# Altium footprint library SLAYER_Altium_Pcb.PcbLib: 31 footprints (part 1 of 2)
Each footprint in its own frame and in the unit in brackets; x right, y up, seen from the top. Pads: shape width x height; smd on the part's side, far side on the other; paste and mask are expansions set on the pad; w line width, h text height; cw(c..) or ccw(c..) is an arc to the next point about the centre after c.
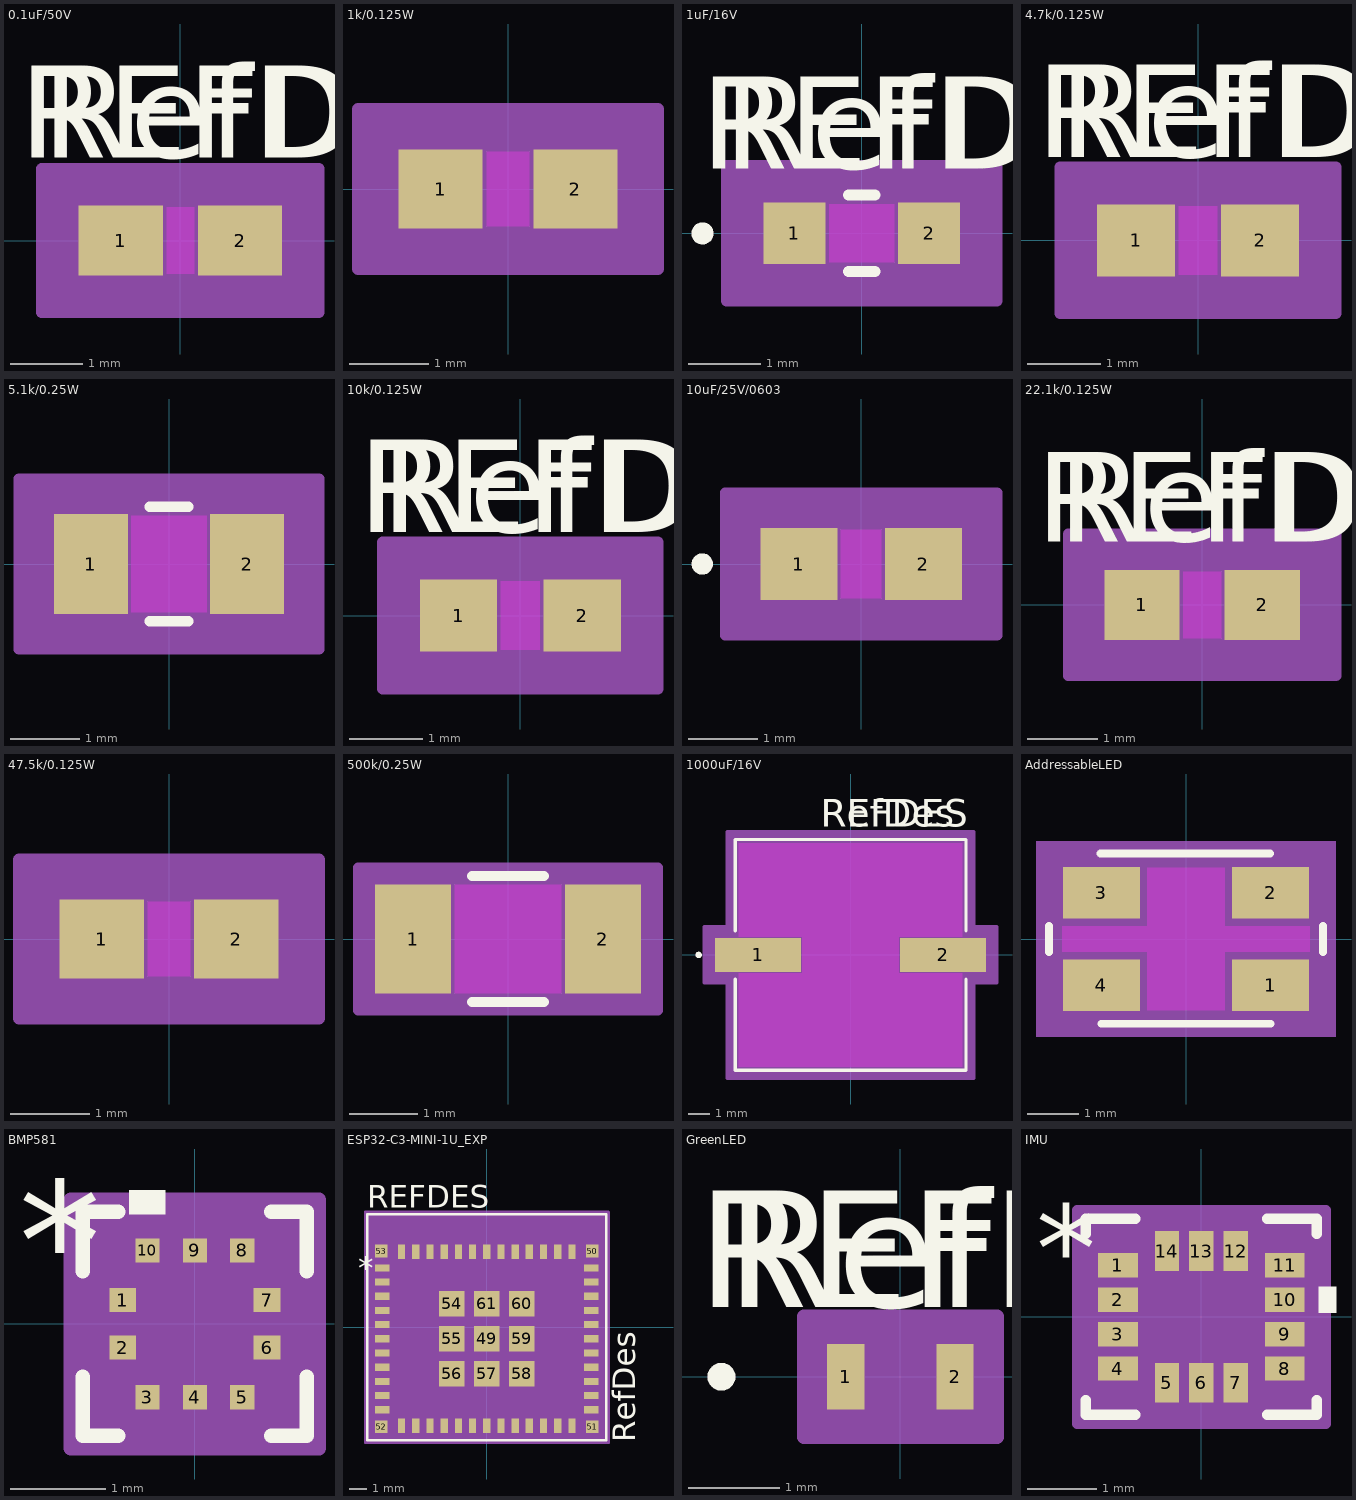
[diagram p0: the footprints below, top view; thin cyan lines are the x and y axes]

## 0.1uF/50V [mm] "CC0603KRX7R9BB104"
pads (2):
  rect 1.16x0.964 smd paste+0 mask+0: 1(-0.821,0) 2(0.821,0)
Top Layer keep-out:
  region: -0.191,-0.406 -0.191,0.406 0.191,0.406 0.191,-0.406
Top Overlay:
  text "RefDes" at -1.905,1.143 h1.27
  text "REFDES" at -2.222,1.143 h1.27
Keep-Out Layer:
  region: -0.191,-0.457 -0.191,0.457 0.191,0.457 0.191,-0.457
Mechanical 13:
  lines w0.025: -0.851,-0.457 -0.851,0.457 ; -0.851,-0.457 -0.241,-0.457 -0.241,0.457 -0.851,0.457 ; -0.851,-0.457 0.851,-0.457 ; -0.851,-0.457 -0.851,0.457 ; -0.851,0.457 0.851,0.457 ; 0.851,-0.457 0.241,-0.457 0.241,0.457 0.851,0.457 ; 0.851,-0.457 0.851,0.457 ; 0.851,-0.457 0.851,0.457
  text "RefDes2" at -2.222,1.143 h1.27
Mechanical 15:
  region: 1.909,-0.99 -1.909,-0.99 -1.909,0.99 1.909,0.99
  lines w0.152: -1.909,-0.99 -1.909,0.99 1.909,0.99 1.909,-0.99 -1.909,-0.99
3D body "YAG_CC0603_YAG.step": height 0.91, standoff 0, extent -0.851,-0.457 0.851,0.457

## 1k/0.125W [mm] "CRCW06031K00FKEA"
pads (2):
  rect 1.058x0.99 smd paste+0 mask+0: 1(-0.847,0) 2(0.847,0)
Top Layer keep-out:
  region: -0.267,-0.419 -0.267,0.419 0.267,0.419 0.267,-0.419
Top Overlay:
  text ".Designator" at -3.111,1.143 h1.27
Keep-Out Layer:
  region: -0.267,-0.47 -0.267,0.47 0.267,0.47 0.267,-0.47
Mechanical 13:
  lines w0.025: -0.826,-0.47 -0.826,0.47 ; -0.826,-0.47 0.826,-0.47 ; -0.826,-0.47 -0.318,-0.47 -0.318,0.47 -0.826,0.47 ; -0.826,-0.47 -0.826,0.47 ; -0.826,0.47 0.826,0.47 ; 0.826,-0.47 0.826,0.47 ; 0.826,-0.47 0.826,0.47 ; 0.826,-0.47 0.318,-0.47 0.318,0.47 0.826,0.47
  text ".Designator" at -3.111,1.143 h1.27
Mechanical 15:
  region: 1.883,-1.003 -1.883,-1.003 -1.883,1.003 1.883,1.003
  lines w0.152: -1.883,-1.003 1.883,-1.003 1.883,1.003 -1.883,1.003 -1.883,-1.003
3D body "RES_CRCW_0603.step": height 0.51, standoff 0, extent -0.826,-0.47 0.826,0.47

## 1uF/16V [mm] "CL10B105KO8NNNC"
pads (2):
  rect 0.859x0.851 smd paste+0 mask+0: 1(-0.929,0) 2(0.929,0)
Top Layer keep-out:
  region: -0.449,-0.349 -0.449,0.349 0.449,0.349 0.449,-0.349
Top Overlay:
  circle w0.152: c-2.197,0 r0.076
  lines w0.152: -0.183,-0.527 0.183,-0.527 ; -0.183,0.527 0.183,0.527
  text "REFDES" at -2.222,0.889 h1.27
  text "RefDes" at -1.905,0.889 h1.27
Keep-Out Layer:
  region: -0.449,-0.4 -0.449,0.4 0.449,0.4 0.449,-0.4
Mechanical 13:
  circle w0: c-0.802,0 r0.076
  lines w0.025: -0.8,-0.4 -0.8,0.4 ; -0.8,-0.4 0.8,-0.4 ; -0.8,-0.4 -0.5,-0.4 -0.5,0.4 -0.8,0.4 ; -0.8,-0.4 -0.8,0.4 ; -0.8,0.4 0.8,0.4 ; 0.8,-0.4 0.8,0.4 ; 0.8,-0.4 0.8,0.4 ; 0.8,-0.4 0.5,-0.4 0.5,0.4 0.8,0.4
  text "RefDes2" at -2.222,0.889 h1.27
Mechanical 15:
  region: 1.867,-0.933 -1.867,-0.933 -1.867,0.933 1.867,0.933
  lines w0.152: -1.867,-0.933 1.867,-0.933 1.867,0.933 -1.867,0.933 -1.867,-0.933
3D body "CAP_CL10_SAM.step": height 0.9, standoff 0, extent -0.8,-0.4 0.8,0.4

## 4.7k/0.125W [mil] "CRCW06034K70FKEA"
pads (2):
  rect 42x39 smd paste+0 mask+0: 1(-33.5,0) 2(33.5,0)
Top Layer keep-out:
  region: -10.5,-16.5 -10.5,16.5 10.5,16.5 10.5,-16.5
Top Overlay:
  text "REFDES" at -87.5,45 h50
  text "RefDes" at -75,45 h50
Keep-Out Layer:
  region: -10.5,-18.5 -10.5,18.5 10.5,18.5 10.5,-18.5
Mechanical 13:
  lines w1: -32.5,-18.5 -32.5,18.5 ; -32.5,-18.5 32.5,-18.5 ; -32.5,-18.5 -12.5,-18.5 -12.5,18.5 -32.5,18.5 ; -32.5,-18.5 -32.5,18.5 ; -32.5,18.5 32.5,18.5 ; 32.5,-18.5 32.5,18.5 ; 32.5,-18.5 32.5,18.5 ; 32.5,-18.5 12.5,-18.5 12.5,18.5 32.5,18.5
  text "RefDes2" at -87.5,45 h50
Mechanical 15:
  region: 74.5,-39.5 -74.5,-39.5 -74.5,39.5 74.5,39.5
  lines w6: -74.5,-39.5 74.5,-39.5 74.5,39.5 -74.5,39.5 -74.5,-39.5
3D body "RES_CRCW_0603.step": height 20, standoff 0, extent -32.52,-18.5 32.52,18.5

## 5.1k/0.25W [mil] "CRCW08055K10FKEA"
pads (2):
  rect 42x57 smd paste+0 mask+0: 1(-44.5,0) 2(44.5,0)
Top Layer keep-out:
  region: -21.5,-25.5 -21.5,25.5 21.5,25.5 21.5,-25.5
Top Overlay:
  lines w6: -11.03,-32.5 11.03,-32.5 ; -11.03,32.5 11.03,32.5
  text ".Designator" at -127.5,55 h50
Keep-Out Layer:
  region: -21.5,-27.5 -21.5,27.5 21.5,27.5 21.5,-27.5
Mechanical 13:
  lines w1: -43.5,-27.5 -43.5,27.5 ; -43.5,-27.5 43.5,-27.5 ; -43.5,-27.5 -23.5,-27.5 -23.5,27.5 -43.5,27.5 ; -43.5,-27.5 -43.5,27.5 ; -43.5,27.5 43.5,27.5 ; 43.5,-27.5 43.5,27.5 ; 43.5,-27.5 43.5,27.5 ; 43.5,-27.5 23.5,-27.5 23.5,27.5 43.5,27.5
  text ".Designator" at -127.5,55 h50
Mechanical 15:
  region: 85.5,-48.5 -85.5,-48.5 -85.5,48.5 85.5,48.5
  lines w6: -85.5,-48.5 85.5,-48.5 85.5,48.5 -85.5,48.5 -85.5,-48.5
3D body "RES_CRCW_0805.step": height 20, standoff 0, extent -43.5,-27.48 43.5,27.48

## 10k/0.125W [mm] "CRCW060310K0FKEA"
pads (2):
  rect 1.058x0.99 smd paste+0 mask+0: 1(-0.847,0) 2(0.847,0)
Top Layer keep-out:
  region: -0.267,-0.419 -0.267,0.419 0.267,0.419 0.267,-0.419
Top Overlay:
  text "RefDes" at -1.905,1.143 h1.27
  text "REFDES" at -2.222,1.143 h1.27
Keep-Out Layer:
  region: -0.267,-0.47 -0.267,0.47 0.267,0.47 0.267,-0.47
Mechanical 13:
  lines w0.025: -0.826,-0.47 -0.826,0.47 ; -0.826,-0.47 -0.318,-0.47 -0.318,0.47 -0.826,0.47 ; -0.826,-0.47 0.826,-0.47 ; -0.826,-0.47 -0.826,0.47 ; -0.826,0.47 0.826,0.47 ; 0.826,-0.47 0.318,-0.47 0.318,0.47 0.826,0.47 ; 0.826,-0.47 0.826,0.47 ; 0.826,-0.47 0.826,0.47
  text "RefDes2" at -2.222,1.143 h1.27
Mechanical 15:
  region: 1.883,-1.003 -1.883,-1.003 -1.883,1.003 1.883,1.003
  lines w0.152: -1.883,-1.003 -1.883,1.003 1.883,1.003 1.883,-1.003 -1.883,-1.003
3D body "RES_CRCW_0603.step": height 0.51, standoff 0, extent -0.826,-0.47 0.826,0.47

## 10uF/25V/0603 [mm] "GRM188R61E106KA73D"
pads (2):
  rect 1.109x1.041 smd paste+0 mask+0: 1(-0.897,0) 2(0.897,0)
Top Layer keep-out:
  region: -0.292,-0.445 -0.292,0.445 0.292,0.445 0.292,-0.445
Top Overlay:
  circle w0.152: c-2.29,0 r0.076
  text ".Designator" at -3.619,1.651 h1.27
Keep-Out Layer:
  region: -0.292,-0.495 -0.292,0.495 0.292,0.495 0.292,-0.495
Mechanical 13:
  circle w0.025: c-0.77,0 r0.076
  lines w0.025: -0.902,-0.495 -0.902,0.495 ; -0.902,-0.495 0.902,-0.495 ; -0.902,-0.495 -0.343,-0.495 -0.343,0.495 -0.902,0.495 ; -0.902,-0.495 -0.902,0.495 ; -0.902,0.495 0.902,0.495 ; 0.902,-0.495 0.902,0.495 ; 0.902,-0.495 0.902,0.495 ; 0.902,-0.495 0.343,-0.495 0.343,0.495 0.902,0.495
  text ".Designator" at -3.619,1.651 h1.27
Mechanical 15:
  region: 1.96,-1.028 -1.96,-1.028 -1.96,1.028 1.96,1.028
  lines w0.152: -1.96,-1.028 1.96,-1.028 1.96,1.028 -1.96,1.028 -1.96,-1.028
3D body: height 0.25, standoff 0, extent 0,0 0.254,0.254

## 22.1k/0.125W [mil] "CRCW060322K1FKEA"
pads (2):
  rect 42x39 smd paste+0 mask+0: 1(-33.5,0) 2(33.5,0)
Top Layer keep-out:
  region: -10.5,-16.5 -10.5,16.5 10.5,16.5 10.5,-16.5
Top Overlay:
  text "REFDES" at -92.5,35 h50
  text "RefDes" at -80,35 h50
Keep-Out Layer:
  region: -10.5,-18.5 -10.5,18.5 10.5,18.5 10.5,-18.5
Mechanical 13:
  lines w1: -32.5,-18.5 -32.5,18.5 ; -32.5,-18.5 32.5,-18.5 ; -32.5,-18.5 -12.5,-18.5 -12.5,18.5 -32.5,18.5 ; -32.5,-18.5 -32.5,18.5 ; -32.5,18.5 32.5,18.5 ; 32.5,-18.5 32.5,18.5 ; 32.5,-18.5 32.5,18.5 ; 32.5,-18.5 12.5,-18.5 12.5,18.5 32.5,18.5
  text "RefDes2" at -92.5,35 h50
Mechanical 15:
  region: 74.5,-39.5 -74.5,-39.5 -74.5,39.5 74.5,39.5
  lines w6: -74.5,-39.5 74.5,-39.5 74.5,39.5 -74.5,39.5 -74.5,-39.5
3D body "RES_CRCW_0603.step": height 20, standoff 0, extent -32.52,-18.5 32.52,18.5

## 47.5k/0.125W [mil] "CRCW060347K5FKEA"
pads (2):
  rect 42x39 smd paste+0 mask+0: 1(-33.5,0) 2(33.5,0)
Top Layer keep-out:
  region: -10.5,-16.5 -10.5,16.5 10.5,16.5 10.5,-16.5
Top Overlay:
  text ".Designator" at -137.5,45 h50
Keep-Out Layer:
  region: -10.5,-18.5 -10.5,18.5 10.5,18.5 10.5,-18.5
Mechanical 13:
  lines w1: -32.5,-18.5 -32.5,18.5 ; -32.5,-18.5 32.5,-18.5 ; -32.5,-18.5 -12.5,-18.5 -12.5,18.5 -32.5,18.5 ; -32.5,-18.5 -32.5,18.5 ; -32.5,18.5 32.5,18.5 ; 32.5,-18.5 32.5,18.5 ; 32.5,-18.5 32.5,18.5 ; 32.5,-18.5 12.5,-18.5 12.5,18.5 32.5,18.5
  text ".Designator" at -137.5,45 h50
Mechanical 15:
  region: 74.5,-39.5 -74.5,-39.5 -74.5,39.5 74.5,39.5
  lines w6: -74.5,-39.5 74.5,-39.5 74.5,39.5 -74.5,39.5 -74.5,-39.5
3D body "RES_CRCW_0603.step": height 20, standoff 0, extent -32.52,-18.5 32.52,18.5

## 500k/0.25W [mil] "RC1206FR-07470KL"
pads (2):
  rect 44x63 smd paste+0 mask+0: 1(-55,0) 2(55,0)
Top Layer keep-out:
  region: -31,-29.5 -31,29.5 31,29.5 31,-29.5
Top Overlay:
  lines w6: -20.89,-36.5 20.89,-36.5 ; -20.89,36.5 20.89,36.5
  text ".Designator" at -137.5,55 h50
Keep-Out Layer:
  region: -31,-31.5 -31,31.5 31,31.5 31,-31.5
Mechanical 13:
  lines w1: -63,-31.5 -63,31.5 ; -63,-31.5 -33,-31.5 -33,31.5 -63,31.5 ; -63,-31.5 63,-31.5 ; -63,-31.5 -63,31.5 ; -63,31.5 63,31.5 ; 63,-31.5 33,-31.5 33,31.5 63,31.5 ; 63,-31.5 63,31.5 ; 63,-31.5 63,31.5
  text ".Designator" at -137.5,55 h50
Mechanical 15:
  region: 87,-41.5 -87,-41.5 -87,41.5 87,41.5
  lines w6: -87,-41.5 -87,41.5 87,41.5 87,-41.5 -87,-41.5
3D body "RC1206N_YAG.step": height 27.99, standoff 0, extent -62.99,-31.5 62.99,31.5

## 1000uF/16V [mil] "A768MS108M1CLAS015"
pads (2):
  rect 158x63 smd paste+0 mask+0: 1(-169.5,0) 2(169.5,0)
Top Layer keep-out:
  region: -88.5,-33.5 -88.5,33.5 88.5,33.5 88.5,-33.5
  region: -204.5,33.5 -204.5,204.5 204.5,204.5 204.5,33.5
  region: -204.5,-204.5 -204.5,-33.5 204.5,-33.5 204.5,-204.5
Top Overlay:
  circle w6: c-278.5,0 r3
  lines w6: -211.5,-44.6 -211.5,-211.5 211.5,-211.5 211.5,-44.6 ; -211.5,44.6 -211.5,211.5 211.5,211.5 211.5,44.6
  text "RefDes" at -55,235 h50
  text "REFDES" at -55,235 h50
Keep-Out Layer:
  region: -88.5,-33.5 -88.5,33.5 88.5,33.5 88.5,-33.5
Mechanical 13:
  circle w0: c-186.5,0 r3
  lines w1: -206.5,-103.25 -103.25,-206.5 ; -206.5,103.25 -103.25,206.5 ; -206.5,-206.5 206.5,-206.5 206.5,206.5 -206.5,206.5 -206.5,-206.5
  text "RefDes2" at -87.5,-25 h50
Mechanical 15:
  region: -226.5,-51.5 -268.5,-51.5 -268.5,51.5 -226.5,51.5 -226.5,226.5 226.5,226.5 226.5,51.5 268.5,51.5 268.5,-51.5 226.5,-51.5 226.5,-226.5 -226.5,-226.5
  lines w6: -268.5,-51.5 -268.5,51.5 -226.5,51.5 -226.5,226.5 226.5,226.5 226.5,51.5 268.5,51.5 268.5,-51.5 226.5,-51.5 226.5,-226.5 -226.5,-226.5 -226.5,-51.5 -268.5,-51.5
3D body "CAP_A768-MS_KEM.step": height 502.09, standoff 0, extent -220.51,-206.5 220.51,206.5

## AddressableLED [mm] "SK6812MINI-HS-012"
pads (4):
  rect 1.5x1 smd paste+0 mask+0: 1(1.65,-0.9) 2(1.65,0.9) 3(-1.65,0.9) 4(-1.65,-0.9)
Top Layer keep-out:
  rectangle: -0.762,-1.27 0.762,1.27
  rectangle: -2.286,-0.127 2.286,0.127
Top Overlay:
  lines w0.152: -2.667,-0.254 -2.667,0.254 ; -1.665,1.668 1.637,1.668 ; -1.651,-1.651 1.651,-1.651 ; 2.667,-0.254 2.667,0.254
Keep-Out Layer:
  rectangle: -0.762,-1.397 0.762,1.397
  rectangle: -2.413,-0.254 2.413,0.254
Mechanical 15:
  region: -2.921,1.905 2.921,1.905 2.921,-1.905 -2.921,-1.905

## BMP581 [mil]
pads (10):
  rect 11x10 smd paste+0 mask+0: 1(-29.93,9.84) 2(-29.93,-9.84) 6(29.93,-9.84) 7(29.93,9.84)
  rect 10x10 smd paste+0 mask+0: 3(-19.68,-30.43) 4(0,-30.43) 5(19.68,-30.43) 8(19.68,30.43) 9(0,30.43) 10(-19.68,30.43)
Top Overlay:
  region: -12.19,45.43 -27.18,45.43 -27.18,55.43 -12.19,55.43
  lines w6: -46.5,-21.85 -46.5,-46.5 -31.69,-46.5 ; -46.5,21.85 -46.5,46.5 -31.69,46.5 ; 31.69,-46.5 46.5,-46.5 46.5,-21.85 ; 31.69,46.5 46.5,46.5 46.5,21.85
  text ".Designator" at -137.5,65 h50
  text "*" at -72.93,9.69 h50
Mechanical 13:
  lines w1: -41.5,-8.5 8.5,41.5 ; -41.5,-41.5 -41.5,41.5 41.5,41.5 41.5,-41.5 -41.5,-41.5
  text "*" at -36.93,9.69 h50
  text ".Designator" at -137.5,65 h50
Mechanical 15:
  region: -34.69,-51.5 -51.5,-51.5 -51.5,-24.84 -51.5,24.84 -51.5,51.5 -34.69,51.5 34.69,51.5 51.5,51.5 51.5,24.84 51.5,-24.84 51.5,-51.5 34.69,-51.5
  lines w6: -51.5,-51.5 -34.69,-51.5 34.69,-51.5 51.5,-51.5 51.5,-24.84 51.5,24.84 51.5,51.5 34.69,51.5 -34.69,51.5 -51.5,51.5 -51.5,24.84 -51.5,-24.84 -51.5,-51.5
3D body "QFN10_BMP581_BOS.step": height 32.09, standoff 0, extent -41.5,-41.5 41.5,41.5

## ESP32-C3-MINI-1U_EXP [mil]
pads (61):
  rect 32x16 smd paste+0 mask+0: 1(-232.28,131.89) 2(-232.28,100.39) 3(-232.28,68.9) 4(-232.28,37.4) 5(-232.28,5.91) 6(-232.28,-25.59) 7(-232.28,-57.09) 8(-232.28,-88.58) 9(-232.28,-120.08) 10(-232.28,-151.57) 11(-232.28,-183.07) 25(232.28,-183.07) 26(232.28,-151.57) 27(232.28,-120.08) 28(232.28,-88.58) 29(232.28,-57.09) 30(232.28,-25.59) 31(232.28,5.91) 32(232.28,37.4) 33(232.28,68.9) 34(232.28,100.39) 35(232.28,131.89)
  rect 16x32 smd paste+0 mask+0: 12(-188.98,-218.5) 13(-157.48,-218.5) 14(-125.98,-218.5) 15(-94.49,-218.5) 16(-62.99,-218.5) 17(-31.5,-218.5) 18(0,-218.5) 19(31.5,-218.5) 20(62.99,-218.5) 21(94.49,-218.5) 22(125.98,-218.5) 23(157.48,-218.5) 24(188.98,-218.5) 36(188.98,167.32) 37(157.48,167.32) 38(125.98,167.32) 39(94.49,167.32) 40(62.99,167.32) 41(31.5,167.32) 42(0,167.32) 43(-31.5,167.32) 44(-62.99,167.32) 45(-94.49,167.32) 46(-125.98,167.32) 47(-157.48,167.32) 48(-188.98,167.32)
  rect 57x57 smd paste+0 mask+0: 49(0,-25.59) 54(-77.76,52.17) 55(-77.76,-25.59) 56(-77.76,-103.35) 57(0,-103.35) 58(77.76,-103.35) 59(77.76,-25.59) 60(77.76,52.17) 61(0,52.17)
  rect 28x28 smd paste+0 mask+0: 50(234.25,169.29) 51(234.25,-220.47) 52(-234.25,-220.47) 53(-234.25,169.29)
Top Overlay:
  lines w6: -265,-251 -265,251 265,251 265,-251 -265,-251
  text "REFDES" at -265,265 h50
  text "RefDes" at 330,-255 h50
  text "*" at -285.78,106.89 h50
Mechanical 13:
  lines w1: -260,196 -210,246 ; -260,-246 -260,246 260,246 260,-246 -260,-246
  text "RefDes2" at 330,-255 h50
  text "*" at -203.78,106.89 h50
Mechanical 15:
  region: 270,256 -270,256 -270,-256 270,-256
  lines w6: -270,-256 270,-256 270,256 -270,256 -270,-256

## GreenLED [mil] "LTST-C190KGKT"
pads (2):
  rect 16x28 smd paste+0 mask+0: 1(-23.5,0) 2(23.5,0)
Top Overlay:
  circle w6: c-77,0 r3
  text "REFDES" at -87.5,30 h50
  text "RefDes" at -75,30 h50
Mechanical 13:
  circle w0: c0,0 r3
  lines w1: -31.5,-16 31.5,-16 31.5,16 -31.5,16 -31.5,-16
  text "RefDes2" at -87.5,30 h50
Mechanical 15:
  region: -41.5,-24 -41.5,24 -41.5,26 41.5,26 41.5,24 41.5,-24 41.5,-26 -41.5,-26
  lines w6: -41.5,-26 -41.5,-24 -41.5,24 -41.5,26 41.5,26 41.5,24 41.5,-24 41.5,-26 -41.5,-26
3D body "LED_LTST-C190KGKT_LTO.step": height 32.09, standoff 0, extent -31.5,-15.98 31.5,15.98

## IMU [mm] "LSM6DSMTR"
pads (14):
  rect 0.577x0.352 smd paste+0 mask+0.102: 1(-1.21,0.75) 2(-1.21,0.25) 3(-1.21,-0.25) 4(-1.21,-0.75) 8(1.21,-0.75) 9(1.21,-0.25) 10(1.21,0.25) 11(1.21,0.75)
  rect 0.352x0.577 smd paste+0 mask+0.102: 5(-0.5,-0.956) 6(0,-0.956) 7(0.5,-0.956) 12(0.5,0.956) 13(0,0.956) 14(-0.5,0.956)
Top Overlay:
  region: 1.702,0.44 1.956,0.44 1.956,0.059 1.702,0.059
  lines w0.152: -1.676,-1.207 -1.676,-1.422 -0.957,-1.422 ; -1.676,1.207 -1.676,1.422 -0.957,1.422 ; 0.957,-1.422 1.676,-1.422 1.676,-1.207 ; 0.957,1.422 1.676,1.422 1.676,1.207
  text "*" at -2.4,0.365 h1.27
  text ".Designator" at -3.492,1.778 h1.27
Mechanical 13:
  lines w0.025: -1.549,0.025 -0.279,1.295 ; -1.549,-1.295 1.549,-1.295 1.549,1.295 -1.549,1.295 -1.549,-1.295 ; -1.549,-0.875 -1.549,-0.625 -1.448,-0.625 -1.448,-0.875 -1.549,-0.875 ; -1.549,-0.375 -1.549,-0.125 -1.448,-0.125 -1.448,-0.375 -1.549,-0.375 ; -1.549,0.125 -1.549,0.375 -1.448,0.375 -1.448,0.125 -1.549,0.125 ; -1.549,0.625 -1.549,0.875 -1.448,0.875 -1.448,0.625 -1.549,0.625 ; -0.625,-1.295 -0.375,-1.295 -0.375,-1.194 -0.625,-1.194 -0.625,-1.295 ; -0.625,1.194 -0.375,1.194 -0.375,1.295 -0.625,1.295 -0.625,1.194 ; -0.125,-1.295 0.125,-1.295 0.125,-1.194 -0.125,-1.194 -0.125,-1.295 ; -0.125,1.194 0.125,1.194 0.125,1.295 -0.125,1.295 -0.125,1.194 ; 0.375,-1.295 0.625,-1.295 0.625,-1.194 0.375,-1.194 0.375,-1.295 ; 0.375,1.194 0.625,1.194 0.625,1.295 0.375,1.295 0.375,1.194 ; 1.448,-0.875 1.549,-0.875 1.549,-0.625 1.448,-0.625 1.448,-0.875 ; 1.448,-0.375 1.549,-0.375 1.549,-0.125 1.448,-0.125 1.448,-0.375 ; 1.448,0.125 1.549,0.125 1.549,0.375 1.448,0.375 1.448,0.125 ; 1.448,0.625 1.549,0.625 1.549,0.875 1.448,0.875 1.448,0.625
  text ".Designator" at -3.492,1.778 h1.27
  text "*" at -1.29,0.365 h1.27
Mechanical 15:
  region: -0.879,-1.549 -1.803,-1.549 -1.803,-1.129 -1.803,1.129 -1.803,1.549 -0.879,1.549 0.879,1.549 1.803,1.549 1.803,1.129 1.803,-1.129 1.803,-1.549 0.879,-1.549
  lines w0.152: -1.803,-1.549 -1.803,-1.129 -1.803,1.129 -1.803,1.549 -0.879,1.549 0.879,1.549 1.803,1.549 1.803,1.129 1.803,-1.129 1.803,-1.549 0.879,-1.549 -0.879,-1.549 -1.803,-1.549
3D body "LGA-14L_2P5X3X0P83_STM.step": height 0.87, standoff 0, extent -1.549,-1.295 1.549,1.295